# EAGLE library part 6180XX29221_61801529221 (library WR-DSUB)
WR-DSUB Male PCB Connector with Hex Screw Kind Properties Quality Class:3 as per CECC 75 301-802 Gender:Male Type:Straight Insulator Material:PBT Insulator Flammability Rating:UL94 V-0 Color:White Cover Material:Steel Cover Plating:Tin Contact Material:Copper Alloy Contact Plating:Gold Contact Type:Stamped General Information Operating Temperature:-55 up to +105 °C Compliance:RoHS Electrical Properties IR1:3 A Working Voltage:125 V (AC) Withstanding Voltage:1000 V (AC) Contact Resistance:30 mΩ <https://www.we-online.com/catalog/media/o33089v209%20Family_WR-DSUB_6180xx29221.jpg> Details see: www.we-online.com/en/components/products/DSUB_MALE_PCB_CONNECTOR_W_HEX_SCREW_6180XX29221 Updated by Yingchun, Shan 2020-01-08 2020 (C) Würth Elektronik
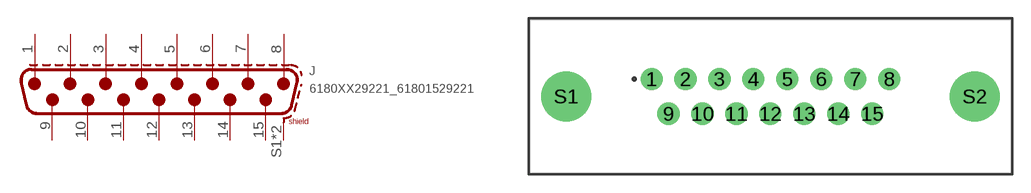
[diagram p25: symbol with the pads of 61801529221; footprint 61801529221]

Designator prefix J

## 6180XX29221_61801529221 (DATASHEET-URL: https://www.we-online.com/redexpert/spec/61801529221?ae; GENDER: Male; PART-NUMBER: 61801529221; PINS: 15; TYPE: Straight; VALUE: 61801529221; WE-NUMBER: 61801529221; WORKING-VOLTAGE: 125 V(AC))  [61801529221]
1  1
2  2
3  3
4  4
5  5
6  6
7  7
8  8
9  9
10  10
11  11
12  12
13  13
14  14
15  15
S1  SHIELD
S2  SHIELD

## Footprint 61801529221 (pad centres in mm)
WR-DSUB Male PCB Connector with Hex Screw, 15 Pins
drill 1.2: 1 -9.7,1.42; 2 -6.93,1.42; 3 -4.16,1.42; 4 -1.39,1.42; 5 1.38,1.42; 6 4.15,1.42; 7 6.92,1.42; 8 9.69,1.42; 9 -8.315,-1.42; 10 -5.545,-1.42; 11 -2.775,-1.42; 12 -0.005,-1.42; 13 2.765,-1.42; 14 5.535,-1.42; 15 8.305,-1.42
drill 3.05: S1 -16.66,0; S2 16.66,0